# Altium integrated library uCs.IntLib: 2 symbols
Pins are listed as number, name and electrical type; pins without a type are passive.

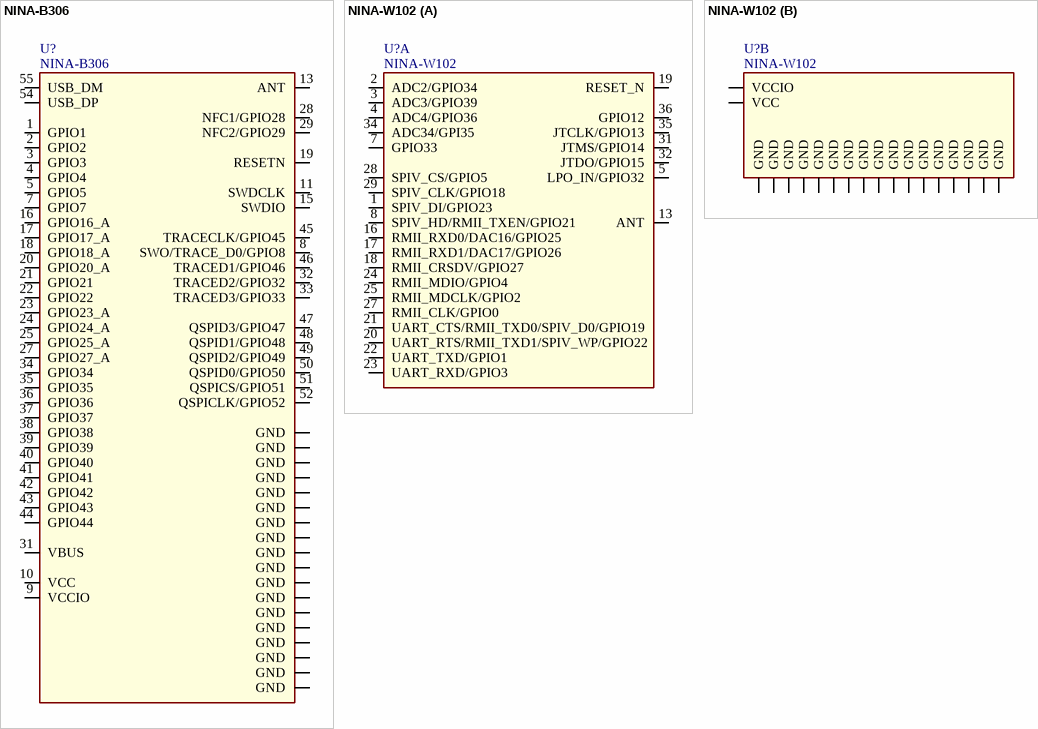
[diagram p0: symbols NINA-B306 to NINA-W102]

## NINA-B306
designator U?
footprint NINA-B306
pins: 1 GPIO1, 2 GPIO2, 3 GPIO3, 4 GPIO4, 5 GPIO5, 6 GND (power), 7 GPIO7, 8 SWO/TRACE_D0/GPIO8, 9 VCCIO (power), 10 VCC (power), 11 SWDCLK, 12 GND (power), 13 ANT, 14 GND (power), 15 SWDIO, 16 GPIO16_A, 17 GPIO17_A, 18 GPIO18_A, 19 RESETN, 20 GPIO20_A, 21 GPIO21, 22 GPIO22, 23 GPIO23_A, 24 GPIO24_A, 25 GPIO25_A, 26 GND (power), 27 GPIO27_A, 28 NFC1/GPIO28, 29 NFC2/GPIO29, 30 GND (power), 31 VBUS (power), 32 TRACED2/GPIO32, 33 TRACED3/GPIO33, 34 GPIO34, 35 GPIO35, 36 GPIO36, 37 GPIO37, 38 GPIO38, 39 GPIO39, 40 GPIO40, 41 GPIO41, 42 GPIO42, 43 GPIO43, 44 GPIO44, 45 TRACECLK/GPIO45, 46 TRACED1/GPIO46, 47 QSPID3/GPIO47, 48 QSPID1/GPIO48, 49 QSPID2/GPIO49, 50 QSPID0/GPIO50, 51 QSPICS/GPIO51, 52 QSPICLK/GPIO52, 53 GND (power), 54 USB_DP, 55 USB_DM, GND1 GND (power), GND2 GND (power), GND3 GND (power), GND4 GND (power), GND5 GND (power), GND6 GND (power), GND7 GND (power), GND8 GND (power), GND9 GND (power), GND10 GND (power), GND11 GND (power), GND12 GND (power)

## NINA-W102
designator U?
footprint NINA-W102
part A pins: 1 SPIV_DI/GPIO23, 2 ADC2/GPIO34, 3 ADC3/GPIO39, 4 ADC4/GPIO36, 5 LPO_IN/GPIO32, 7 GPIO33, 8 SPIV_HD/RMII_TXEN/GPIO21, 13 ANT, 16 RMII_RXD0/DAC16/GPIO25, 17 RMII_RXD1/DAC17/GPIO26, 18 RMII_CRSDV/GPIO27, 19 RESET_N, 20 UART_RTS/RMII_TXD1/SPIV_WP/GPIO22, 21 UART_CTS/RMII_TXD0/SPIV_D0/GPIO19, 22 UART_TXD/GPIO1, 23 UART_RXD/GPIO3, 24 RMII_MDIO/GPIO4, 25 RMII_MDCLK/GPIO2, 27 RMII_CLK/GPIO0, 28 SPIV_CS/GPIO5, 29 SPIV_CLK/GPIO18, 31 JTMS/GPIO14, 32 JTDO/GPIO15, 34 ADC34/GPI35, 35 JTCLK/GPIO13, 36 GPIO12
part B pins: 6 GND, 9 VCCIO, 10 VCC, 12 GND, 14 GND, 26 GND, 30 GND, GND1 GND, GND2 GND, GND3 GND, GND4 GND, GND5 GND, GND6 GND, GND7 GND, GND8 GND, GND9 GND, GND10 GND, GND11 GND, GND12 GND